# Altium schematic symbol library XS_2P.Schlib: 1 symbol
Pins are listed as number, name and electrical type; pins without a type are passive.

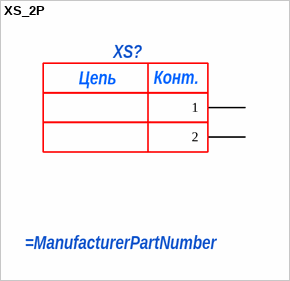
[diagram p0: symbol XS_2P]

## XS_2P
designator XS?
pins: 1, 2
text: Цепь; Конт.